# Altium footprint library MB215.PcbLib: 1 footprints
Each footprint in its own frame and in the unit in brackets; x right, y up, seen from the top. Pads: shape width x height; smd on the part's side, far side on the other; paste and mask are expansions set on the pad; w line width, h text height; cw(c..) or ccw(c..) is an arc to the next point about the centre after c.
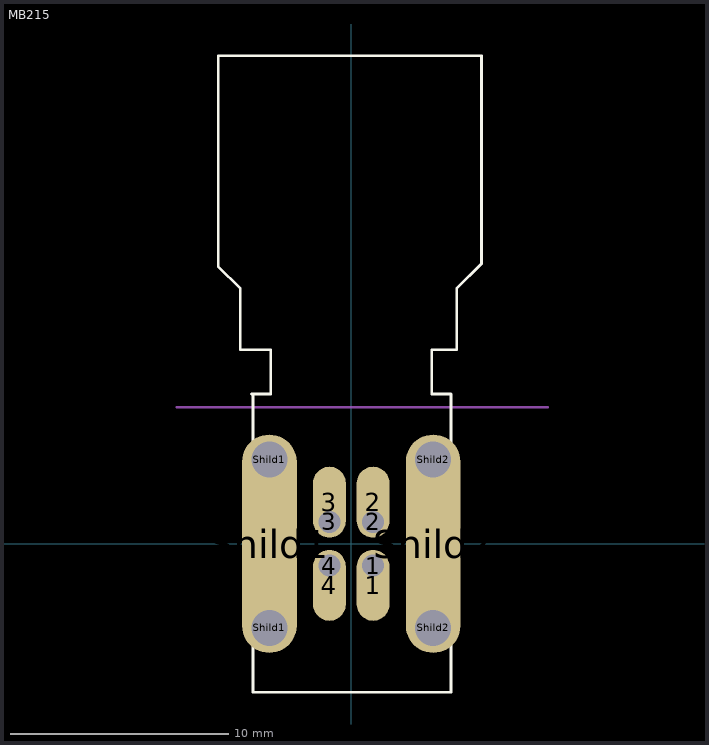
[diagram p0: the footprint, top view; thin cyan lines are the x and y axes]

## MB215 [mm]
pads (14):
  rrect100% 1.5x3.25 smd: 1(1,-1.905) 2(1,1.905) 3(-1,1.905) 4(-1,-1.905)
  round 1.4 hole 1: 1(1,-1) 2(1,1) 3(-1,1) 4(-1,-1)
  round 2.2 hole 1.65: Shild1(-3.75,-3.85) Shild1(-3.75,3.85) Shild2(3.75,-3.85) Shild2(3.75,3.85)
  rrect100% 2.505x10 smd: Shild1(-3.75,0) Shild2(3.75,0)
Top Overlay:
  lines w0.125: -4.572,6.858 -3.683,6.858 -3.683,8.89 -5.08,8.89 -5.08,11.684 -6.096,12.7 -6.096,22.352 5.969,22.352 5.969,12.827 4.826,11.684 4.826,8.89 3.683,8.89 3.683,6.858 4.572,6.858 4.572,-6.8 -4.5,-6.8 -4.5,6.8
Mechanical 15:
  lines w0.125: -8,6.25 9,6.25
3D body "d4s2ut-40mxx-y_101007.stp": height 8.15, standoff -6, extent -6.031,-6.828 5.969,22.322